# Altium integrated library CAPS.IntLib: 34 symbols
Pins are listed as number, name and electrical type; pins without a type are passive.

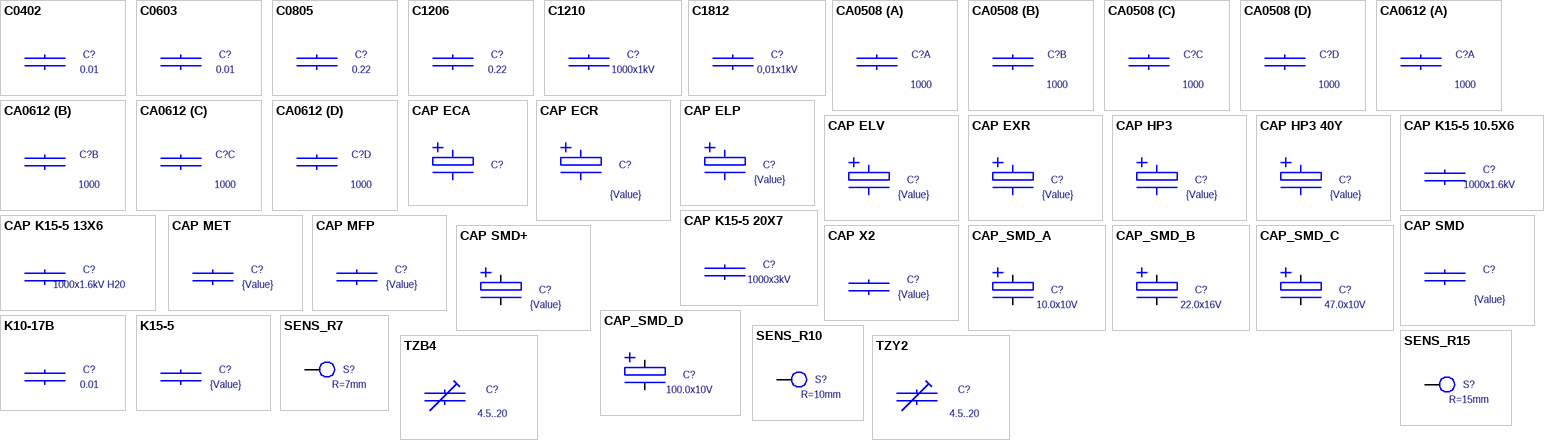
[diagram p0: symbols C0402 to TZY2]

## C0402
designator C?, comment 0.01
C0402; Value: 0.01
footprint C0402
pins: 1, 2

## C0603
designator C?, comment 0.01
C0603; Value: 0.01
footprint C0603
pins: 1, 2

## C0805
designator C?, comment 0.22
C0805; Value: 0.22
footprint C0805
pins: 1, 2

## C1206
designator C?, comment 0.22
C1206; Value: 0.22
footprint C1206
pins: 1, 2

## C1210
designator C?, comment 1000x1kV
C1210; Value: 1000x1kV
footprint C1210
pins: 1, 2

## C1812
designator C?, comment 0,01x1kV
C1812; Value: 0,01x1kV
footprint C1812
pins: 1, 2

## CA0508
designator C?, comment 1000
CA0508; Value: 1000
footprint CA0508
part A pins: 1, 8 2
part B pins: 2 1, 7 2
part C pins: 3 1, 6 2
part D pins: 4 1, 5 2

## CA0612
designator C?, comment 1000
CA0612; Value: 1000
footprint CA0612
part A pins: 1, 8 2
part B pins: 2 1, 7 2
part C pins: 3 1, 6 2
part D pins: 4 1, 5 2

## CAP ECA
designator C?, comment {Value}  (value not drawn)
CAP ECA; Value: {Value}
footprint ECA 10x17
footprint ECA 10x21
footprint ECA 6x12
footprint ECA 6x16
footprint ECA 8x16
footprint ECA 8x20
pins: 1, 2

## CAP ECR
designator C?, comment {Value}
CAP ECR; Value: {Value}
footprint ECR 10
footprint ECR 13
footprint ECR 16
footprint ECR 18
footprint ECR 22
footprint ECR 25
footprint ECR 5
footprint ECR 6
footprint ECR 8
footprint ECR 10x16 H
footprint ECR 10x20 H
footprint ECR 13x25 H
pins: 1, 2

## CAP ELP
designator C?  value {Value}  (hidden comment: CAP ELP)
footprint ELP 22
footprint ELP 25
footprint ELP 30
footprint ELP 35
footprint ELP 40
pins: 1, 2

## CAP ELV
designator C?  value {Value}  (hidden comment: CAP ELV)
footprint ELV 4x5.4
footprint ELV 6.3x5.4
footprint ELV 6.3x7.7
footprint ELV 8x6.2
footprint ELV 8x10.5
footprint ELV 10x10.5
pins: 1, 2

## CAP EXR
designator C?  value {Value}  (hidden comment: CAP EXR)
footprint ECR 10
footprint ECR 13
footprint ECR 16
footprint ECR 18
footprint ECR 5
footprint ECR 6
footprint ECR 8
pins: 1, 2

## CAP HP3
designator C?  value {Value}  (hidden comment: CAP HP3)
footprint HP3 35 Y
pins: 1, 2, 3 hidden, 4 hidden

## CAP HP3 40Y
designator C?  value {Value}  (hidden comment: CAP HP3 40Y)
footprint HP3 40 Y
pins: 1, 2, 3 hidden, 4 hidden

## CAP K15-5 10.5X6
designator C?  value 1000x1.6kV  (hidden comment: CAP K15-5 10.5X6)
footprint K15-5 10.5X6
pins: 1, 2

## CAP K15-5 13X6
designator C?  value 1000x1.6kV H20  (hidden comment: CAP K15-5 13X6)
footprint K15-5 13X6
pins: 1, 2

## CAP K15-5 20X7
designator C?  value 1000x3kV  (hidden comment: CAP K15-5 20X7)
footprint K15-5 20X7
pins: 1, 2

## CAP MET
designator C?  value {Value}  (hidden comment: CAP MET)
footprint MET 10x6
footprint MET 14x5
footprint MET 14x6
footprint MET 14x7
footprint MET 14x8
footprint MET 19x10
footprint MET 19x7
footprint MET 19x8
footprint MET 19x9
footprint MET 25x10
footprint MET 25x12
footprint MET 25x14
footprint MET 25x8
footprint MET 25x9
footprint MET 32x12
footprint MET 32x14
footprint MET 32x16
footprint MET 32x18
footprint MET 32x20
footprint MET 47x16
footprint MET 47x18
footprint MET 47x20
footprint MET 47x22
footprint MET 47x24
footprint MET 47x26
footprint MET 47x28
footprint MET 47x30
footprint MET 47x32
footprint MET 58x26
footprint MET 58x29
footprint MET 58x32
footprint MET 58x34
pins: 1, 2

## CAP MFP
designator C?  value {Value}  (hidden comment: CAP MFP)
footprint MFP 7X18
footprint MFP 8.5X18
footprint MFP 9X18
footprint MKT 4X13
footprint MKT 5X7.5
footprint MKT 5X13
footprint MKT 6X13
footprint MKP 32x11x21
footprint MKP 32x14x25
footprint MKP 32x15x25
footprint MKT 4X10.5
footprint MKT 5X10.5
footprint MKT 6X10.5
pins: 1, 2

## CAP SMD
designator C?, comment {Value}
CAP SMD; Value: {Value}
footprint C0402
footprint C0603
footprint C0805
footprint C1206
footprint C1210
footprint 1218
footprint 1806
footprint 1808
footprint 1812
footprint 2010
footprint 2220
footprint 2225
footprint 2512
footprint 2824
footprint 3225
footprint 4030
footprint 4032
footprint 5040
footprint 6054
footprint C1812
pins: 1, 2

## CAP SMD+
designator C?, comment {Value}
CAP SMD+; Value: {Value}
footprint 2012/P
footprint 3216/A
footprint 3528/B
footprint 5832/UC
footprint 5845/V
footprint 6032/C
footprint 7343/D
footprint DO-214AA/SMB
footprint DO-214AB/SMC
footprint DO-214AC/SMA
pins: 1, 2

## CAP X2
designator C?  value {Value}  (hidden comment: CAP X2)
footprint MFP 10.5x26.5
footprint MFP 11x26.5
footprint MFP 11x31.5
footprint MFP 12.5x31.5
footprint MFP 14x31.5
footprint MFP 15x31.5
footprint MFP 18x31.5
footprint MFP 18x41.5
footprint MFP 19x31.5
footprint MFP 20X41.5
footprint MKT 4X13
footprint MKT 5x13
footprint MFP 5x18
footprint MKT 6X13
footprint MFP 6x18
footprint MFP 6x26.5
footprint MFP 7x18
footprint MFP 7x26.5
footprint MFP 8.5x18
footprint MFP 8.5x26.5
footprint MFP 9x18
pins: 1, 2

## CAP_SMD_A
designator C?, comment 10.0x10V
CAP_SMD_A; Value: 10.0x10V
footprint 3216/A
pins: 1, 2

## CAP_SMD_B
designator C?, comment 22.0x16V
CAP_SMD_B; Value: 22.0x16V
footprint 3528/B
pins: 1, 2

## CAP_SMD_C
designator C?, comment 47.0x10V
CAP_SMD_C; Value: 47.0x10V
footprint 6032/C
pins: 1, 2

## CAP_SMD_D
designator C?, comment 100.0x10V
CAP_SMD_D; Value: 100.0x10V
footprint 7343/D
pins: 1, 2

## K10-17B
designator C?, comment 0.01
Multilayer ceramic cap; Value: 0.01
footprint K10-17B 0805
footprint K10-17B 1206
footprint K10-17B 1210
pins: 1, 2

## K15-5
designator C?  value {Value}  (hidden comment: K15-5)
Disc ceramic cap
footprint K15-5 10.5x6
footprint K15-5 10x7
footprint K15-5 10x9
footprint K15-5 11.5x7
footprint K15-5 11.5x9
footprint K15-5 13.5x7
footprint K15-5 13.5x9
footprint K15-5 13x6
footprint K15-5 14.5x6
footprint K15-5 16x7
footprint K15-5 16x9
footprint K15-5 20x7
footprint K15-5 20x9
footprint K15-5 23x6
footprint K15-5 24x9
footprint K15-5 28x6
footprint K15-5 29x7
footprint K15-5 29x9
footprint K15-5 35x6
footprint K15-5 36x7
footprint K15-5 36x9
footprint K15-5 9x6
pins: 1, 2

## SENS_R7
designator S?, comment R=7mm
Touch capacitive sensor; Value: R=7mm
footprint SENS_R7 (Touch capacitive sensor)
pins: 1

## SENS_R10
designator S?, comment R=10mm
Touch capacitive sensor; Value: R=10mm
footprint SENS_R10 (Touch capacitive sensor)
pins: 1

## SENS_R15
designator S?, comment R=15mm
Touch capacitive sensor; Value: R=15mm
footprint SENS_R15 (Touch capacitive sensor)
pins: 1

## TZB4
designator C?, comment 4.5..20
PartNumber: TZB4R200BA10; Value: 4.5..20
footprint TZB4_B
footprint TZB4_A
footprint TZB4_E
pins: 1, 2

## TZY2
designator C?, comment 4.5..20
PartNumber: TZY2R200A001; Value: 4.5..20
footprint TZY2
pins: 1, 2